# Altium integrated library Linear_Regulators.IntLib: 1 symbol
Pins are listed as number, name and electrical type; pins without a type are passive.

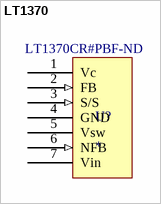
[diagram p0: symbol LT1370]

## LT1370
designator U?  Supplier Part Number 1: LT1370CR#PBF-ND
Supplier 1: Digi-Key
footprint DDPak7
pins: 1 Vc (power), 2 FB (in) "Feedback", 3 S/S (in) "Switch Select", 4 GND (power) "Ground", 5 Vsw (power) "Switch Pin", 6 NFB (in) "Negative Feedback", 7 Vin (power) "Voltage In"